# Altium footprint library QFN50.PcbLib: 1 footprints
Each footprint in its own frame and in the unit in brackets; x right, y up, seen from the top. Pads: shape width x height; smd on the part's side, far side on the other; paste and mask are expansions set on the pad; w line width, h text height; cw(c..) or ccw(c..) is an arc to the next point about the centre after c.
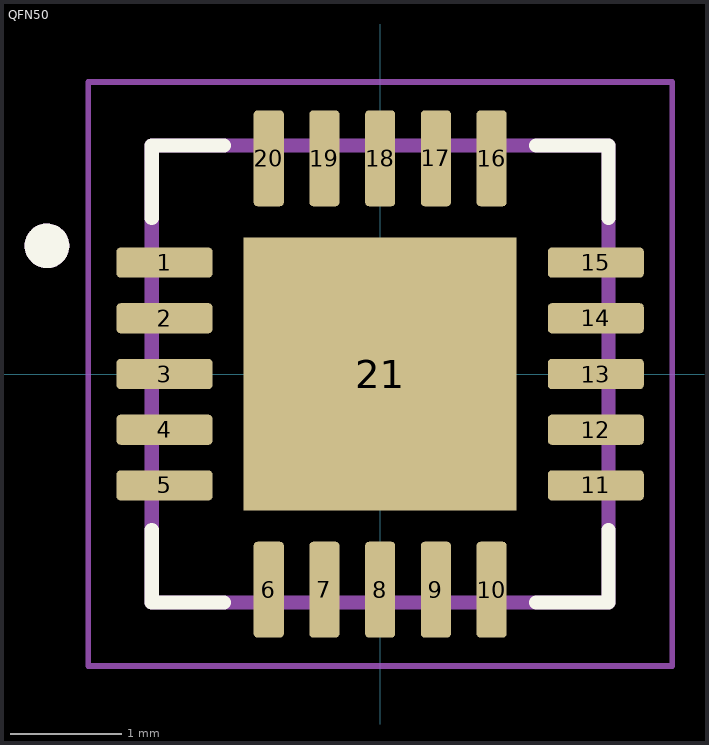
[diagram p0: the footprint, top view; thin cyan lines are the x and y axes]

## QFN50 [mm]
height 0.8
pads (21):
  rrect25% 0.86x0.27 smd: 1(-1.935,1) 2(-1.935,0.5) 3(-1.935,0) 4(-1.935,-0.5) 5(-1.935,-1) 11(1.935,-1) 12(1.935,-0.5) 13(1.935,0) 14(1.935,0.5) 15(1.935,1)
  rrect25% 0.27x0.86 smd: 6(-1,-1.935) 7(-0.5,-1.935) 8(0,-1.935) 9(0.5,-1.935) 10(1,-1.935) 16(1,1.935) 17(0.5,1.935) 18(0,1.935) 19(-0.5,1.935) 20(-1,1.935)
  rect 2.45x2.45 smd paste-0.365: 21(0,0)
Top Overlay:
  circle w0.2: c-2.99,1.15 r0.1
  lines w0.127: -2.05,-1.4 -2.05,-2.05 -1.4,-2.05 ; -2.05,1.4 -2.05,2.05 -1.4,2.05 ; 1.4,-2.05 2.05,-2.05 2.05,-1.4 ; 1.4,2.05 2.05,2.05 2.05,1.4
Mechanical 13:
  circle w0.2: c-2.99,1.15 r0.1
  lines w0.127: -2.05,-2.05 2.05,-2.05 2.05,2.05 -2.05,2.05 -2.05,-2.05
Mechanical 15:
  lines w0.05: -2.62,-2.62 2.62,-2.62 2.62,2.62 -2.62,2.62 -2.62,-2.62